# EAGLE library part ISO7241 (library ti)
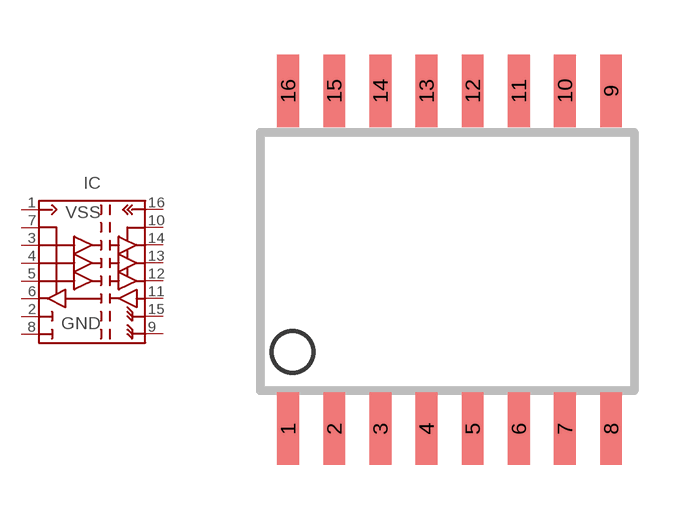
[diagram p13: symbol with the pads of R-PDSO-G16; footprint R-PDSO-G16]

Designator prefix IC

## ISO7241  [R-PDSO-G16]
1  VCC1
2  GND11
3  IN_A
4  IN_B
5  IN_C
6  OUT_D
7  EN1
8  GND12
9  GND22
10  EN2
11  IN_D
12  OUT_C
13  OUT_B
14  OUT_A
15  GND21
16  VCC2

## Footprint R-PDSO-G16 (pad centres in mm)
smd 0.6 x 2: 1 -3.937,-4.649; 2 -2.667,-4.649; 3 -1.397,-4.649; 4 -0.127,-4.649; 5 1.143,-4.649; 6 2.413,-4.649; 7 3.683,-4.649; 8 4.953,-4.649; 9 4.953,4.651; 10 3.683,4.651; 11 2.413,4.651; 12 1.143,4.651; 13 -0.127,4.651; 14 -1.397,4.651; 15 -2.667,4.651; 16 -3.937,4.651